# Altium schematic symbol library SIM7600.SchLib: 1 symbol
Pins are listed as number, name and electrical type; pins without a type are passive.

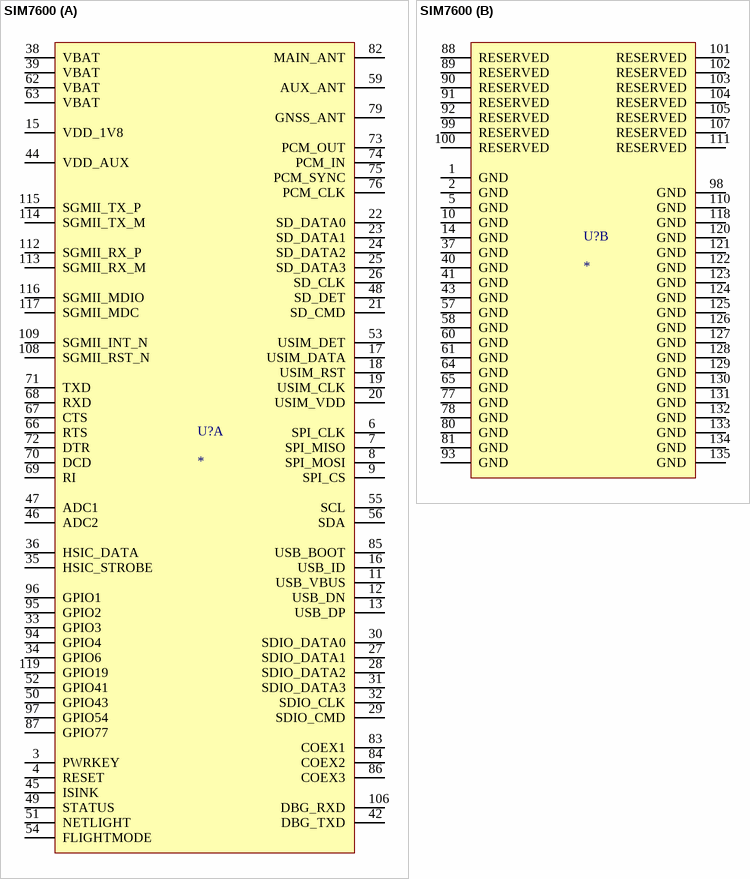
[diagram p0: symbol SIM7600]

## SIM7600
designator U?
part A pins: 3 PWRKEY, 4 RESET, 6 SPI_CLK, 7 SPI_MISO, 8 SPI_MOSI, 9 SPI_CS, 11 USB_VBUS, 12 USB_DN, 13 USB_DP, 15 VDD_1V8, 16 USB_ID, 17 USIM_DATA, 18 USIM_RST, 19 USIM_CLK, 20 USIM_VDD, 21 SD_CMD, 22 SD_DATA0, 23 SD_DATA1, 24 SD_DATA2, 25 SD_DATA3, 26 SD_CLK, 27 SDIO_DATA1, 28 SDIO_DATA2, 29 SDIO_CMD, 30 SDIO_DATA0, 31 SDIO_DATA3, 32 SDIO_CLK, 33 GPIO3, 34 GPIO6, 35 HSIC_STROBE, 36 HSIC_DATA, 38 VBAT, 39 VBAT, 42 DBG_TXD, 44 VDD_AUX, 45 ISINK, 46 ADC2, 47 ADC1, 48 SD_DET, 49 STATUS, 50 GPIO43, 51 NETLIGHT, 52 GPIO41, 53 USIM_DET, 54 FLIGHTMODE, 55 SCL, 56 SDA, 59 AUX_ANT, 62 VBAT, 63 VBAT, 66 RTS, 67 CTS, 68 RXD, 69 RI, 70 DCD, 71 TXD, 72 DTR, 73 PCM_OUT, 74 PCM_IN, 75 PCM_SYNC, 76 PCM_CLK, 79 GNSS_ANT, 82 MAIN_ANT, 83 COEX1, 84 COEX2, 85 USB_BOOT, 86 COEX3, 87 GPIO77, 94 GPIO4, 95 GPIO2, 96 GPIO1, 97 GPIO54, 106 DBG_RXD, 108 SGMII_RST_N, 109 SGMII_INT_N, 112 SGMII_RX_P, 113 SGMII_RX_M, 114 SGMII_TX_M, 115 SGMII_TX_P, 116 SGMII_MDIO, 117 SGMII_MDC, 119 GPIO19
part B pins: 1 GND, 2 GND, 5 GND, 10 GND, 14 GND, 37 GND, 40 GND, 41 GND, 43 GND, 57 GND, 58 GND, 60 GND, 61 GND, 64 GND, 65 GND, 77 GND, 78 GND, 80 GND, 81 GND, 88 RESERVED, 89 RESERVED, 90 RESERVED, 91 RESERVED, 92 RESERVED, 93 GND, 98 GND, 99 RESERVED, 100 RESERVED, 101 RESERVED, 102 RESERVED, 103 RESERVED, 104 RESERVED, 105 RESERVED, 107 RESERVED, 110 GND, 111 RESERVED, 118 GND, 120 GND, 121 GND, 122 GND, 123 GND, 124 GND, 125 GND, 126 GND, 127 GND, 128 GND, 129 GND, 130 GND, 131 GND, 132 GND, 133 GND, 134 GND, 135 GND